# EAGLE library part HEADER_100MIL_1ROW_6 (library sjunglib)
0.1" header single-row x6
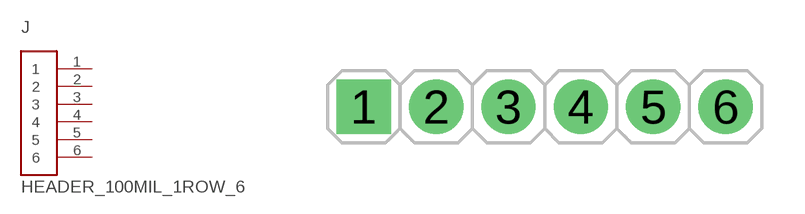
[diagram p8: symbol with the pads of HEADER_100MIL_1ROW_6; footprint HEADER_100MIL_1ROW_6]

Designator prefix J

## HEADER_100MIL_1ROW_6  [HEADER_100MIL_1ROW_6]
1  1  pas
2  2  pas
3  3  pas
4  4  pas
5  5  pas
6  6  pas

## Footprint HEADER_100MIL_1ROW_6 (pad centres in mm)
0.1" header single-row x6 Fits standard 0.025" square pins Drill dia: 0.05" Pad dia: 0.075" Rows: 1 Positions: 6
drill 1.27 pad 1.905 square: 1 -6.35,0
drill 1.27 pad 1.905: 2 -3.81,0; 3 -1.27,0; 4 1.27,0; 5 3.81,0; 6 6.35,0